# EAGLE library part LPC2458FET180 (library nxp-arm)
MICROCONTROLLER Single-chip 16-bit/32-bit micro; 512 kB flash, Ethernet, CAN, ISP/IAP, USB 2.0 device/host/OTG, external memory interface
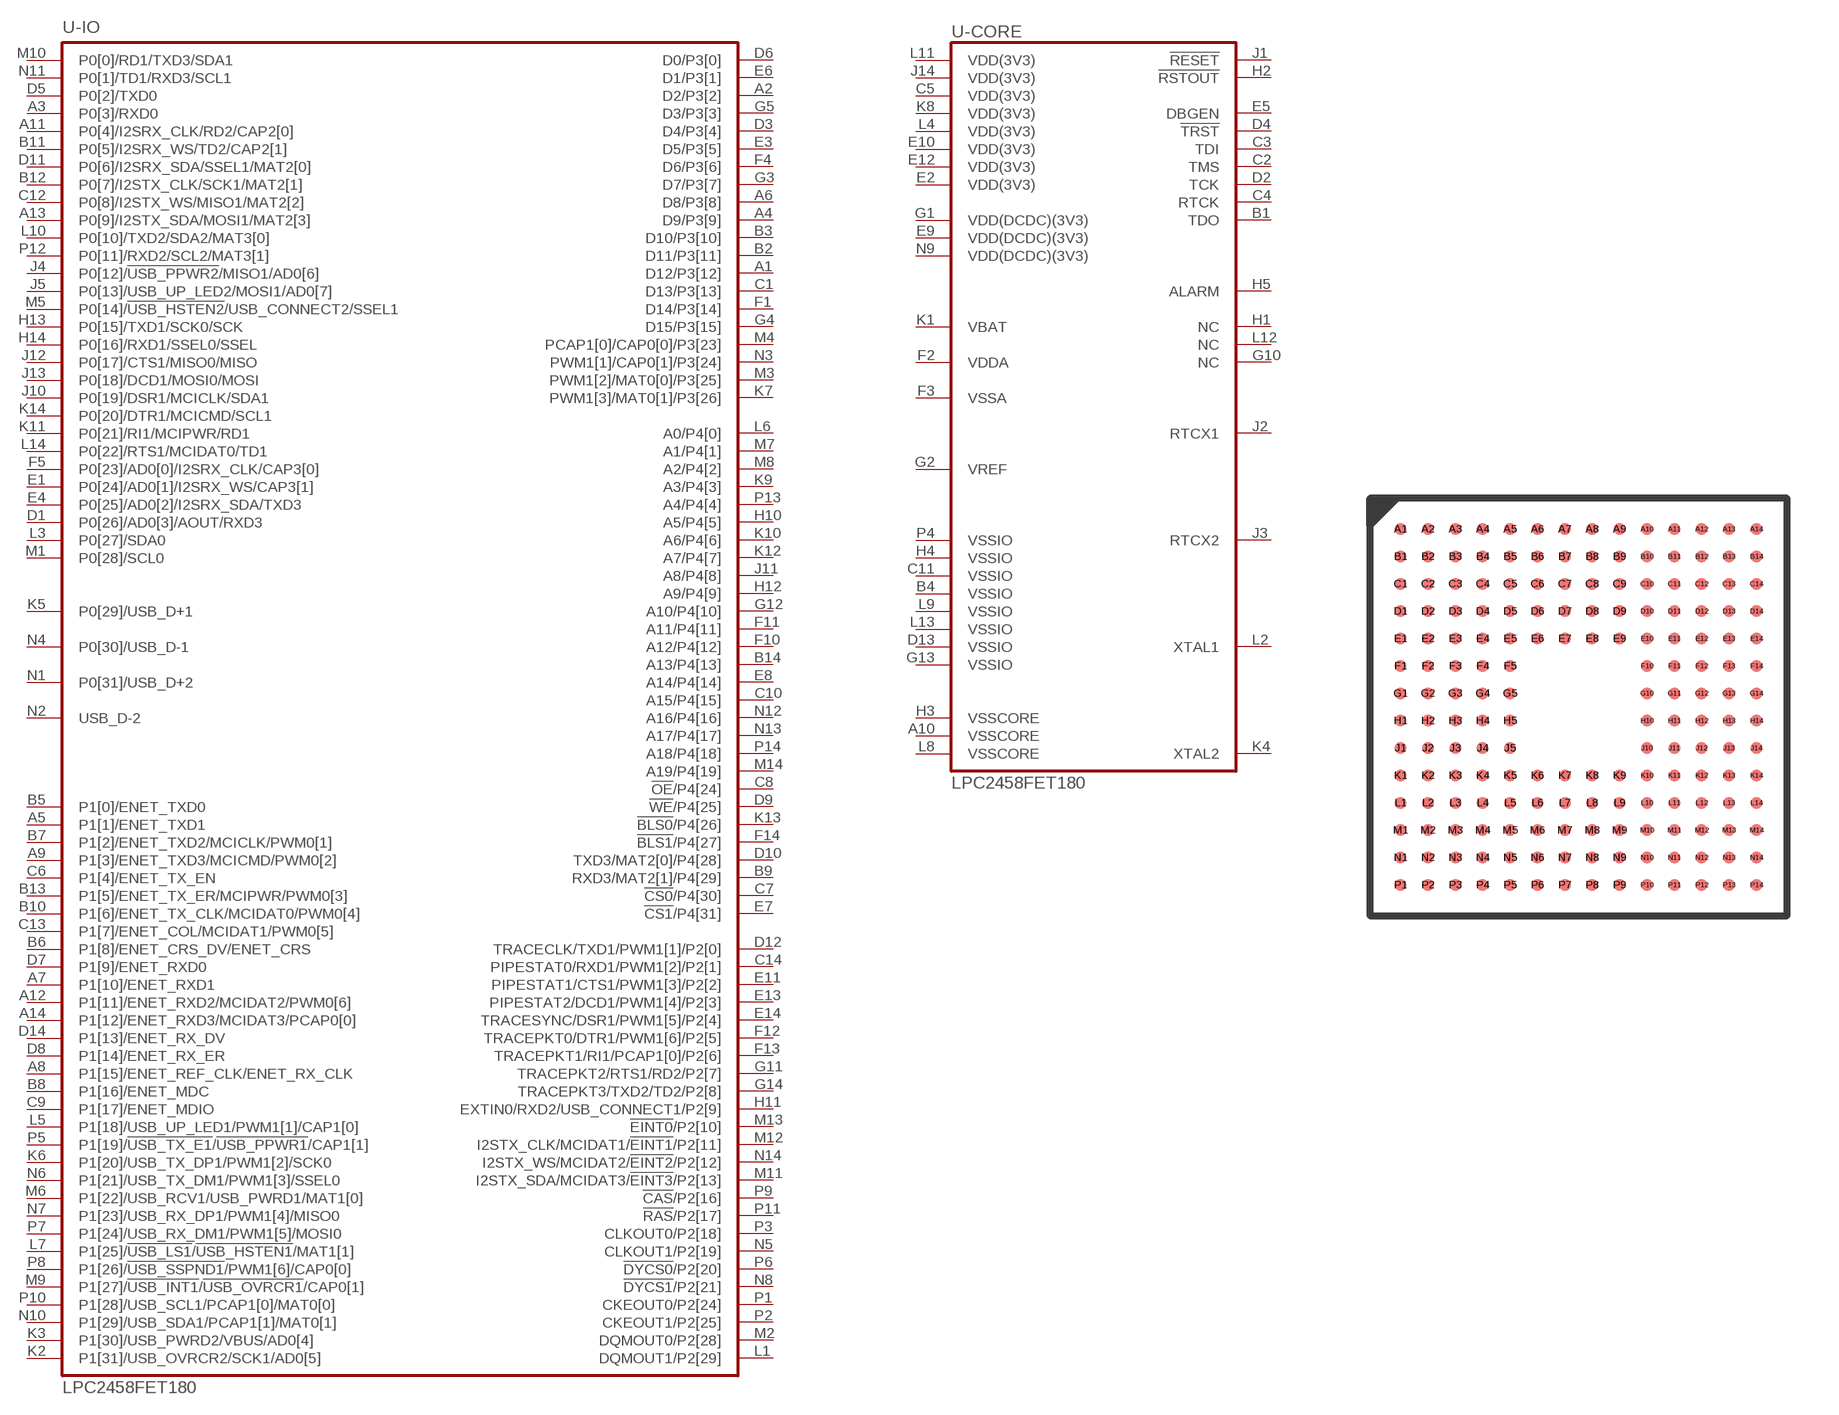
[diagram p0: symbol with the pads of TFBGA180; footprint TFBGA180]

Designator prefix U; gates -IO=LPC2458FET180-IO -CORE=LPC2458FET180-CORE

## LPC2458FET180  [TFBGA180]
A1  -IO:D12/P3[12]
A2  -IO:D2/P3[2]
A3  -IO:P0[3]/RXD0
A4  -IO:D9/P3[9]
A5  -IO:P1[1]/ENET_TXD1
A6  -IO:D8/P3[8]
A7  -IO:P1[10]/ENET_RXD1
A8  -IO:P1[15]/ENET_REF_CLK/ENET_RX_CLK
A9  -IO:P1[3]/ENET_TXD3/MCICMD/PWM0[2]
A10  -CORE:VSSCORE  pwr
A11  -IO:P0[4]/I2SRX_CLK/RD2/CAP2[0]
A12  -IO:P1[11]/ENET_RXD2/MCIDAT2/PWM0[6]
A13  -IO:P0[9]/I2STX_SDA/MOSI1/MAT2[3]
A14  -IO:P1[12]/ENET_RXD3/MCIDAT3/PCAP0[0]
B1  -CORE:TDO  out
B2  -IO:D11/P3[11]
B3  -IO:D10/P3[10]
B4  -CORE:VSSIO  pwr
B5  -IO:P1[0]/ENET_TXD0
B6  -IO:P1[8]/ENET_CRS_DV/ENET_CRS
B7  -IO:P1[2]/ENET_TXD2/MCICLK/PWM0[1]
B8  -IO:P1[16]/ENET_MDC
B9  -IO:RXD3/MAT2[1]/P4[29]
B10  -IO:P1[6]/ENET_TX_CLK/MCIDAT0/PWM0[4]
B11  -IO:P0[5]/I2SRX_WS/TD2/CAP2[1]
B12  -IO:P0[7]/I2STX_CLK/SCK1/MAT2[1]
B13  -IO:P1[5]/ENET_TX_ER/MCIPWR/PWM0[3]
B14  -IO:A13/P4[13]
C1  -IO:D13/P3[13]
C2  -CORE:TMS  in
C3  -CORE:TDI  in
C4  -CORE:RTCK
C5  -CORE:VDD(3V3)  pwr
C6  -IO:P1[4]/ENET_TX_EN
C7  -IO:!CS0!/P4[30]
C8  -IO:!OE!/P4[24]
C9  -IO:P1[17]/ENET_MDIO
C10  -IO:A15/P4[15]
C11  -CORE:VSSIO  pwr
C12  -IO:P0[8]/I2STX_WS/MISO1/MAT2[2]
C13  -IO:P1[7]/ENET_COL/MCIDAT1/PWM0[5]
C14  -IO:PIPESTAT0/RXD1/PWM1[2]/P2[1]
D1  -IO:P0[26]/AD0[3]/AOUT/RXD3
D2  -CORE:TCK  in
D3  -IO:D4/P3[4]
D4  -CORE:!TRST!  in
D5  -IO:P0[2]/TXD0
D6  -IO:D0/P3[0]
D7  -IO:P1[9]/ENET_RXD0
D8  -IO:P1[14]/ENET_RX_ER
D9  -IO:!WE!/P4[25]
D10  -IO:TXD3/MAT2[0]/P4[28]
D11  -IO:P0[6]/I2SRX_SDA/SSEL1/MAT2[0]
D12  -IO:TRACECLK/TXD1/PWM1[1]/P2[0]
D13  -CORE:VSSIO  pwr
D14  -IO:P1[13]/ENET_RX_DV
E1  -IO:P0[24]/AD0[1]/I2SRX_WS/CAP3[1]
E2  -CORE:VDD(3V3)  pwr
E3  -IO:D5/P3[5]
E4  -IO:P0[25]/AD0[2]/I2SRX_SDA/TXD3
E5  -CORE:DBGEN  in
E6  -IO:D1/P3[1]
E7  -IO:!CS1!/P4[31]
E8  -IO:A14/P4[14]
E9  -CORE:VDD(DCDC)(3V3)  pwr
E10  -CORE:VDD(3V3)  pwr
E11  -IO:PIPESTAT1/CTS1/PWM1[3]/P2[2]
E12  -CORE:VDD(3V3)  pwr
E13  -IO:PIPESTAT2/DCD1/PWM1[4]/P2[3]
E14  -IO:TRACESYNC/DSR1/PWM1[5]/P2[4]
F1  -IO:D14/P3[14]
F2  -CORE:VDDA  pwr
F3  -CORE:VSSA  pwr
F4  -IO:D6/P3[6]
F5  -IO:P0[23]/AD0[0]/I2SRX_CLK/CAP3[0]
F10  -IO:A12/P4[12]
F11  -IO:A11/P4[11]
F12  -IO:TRACEPKT0/DTR1/PWM1[6]/P2[5]
F13  -IO:TRACEPKT1/RI1/PCAP1[0]/P2[6]
F14  -IO:!BLS1!/P4[27]
G1  -CORE:VDD(DCDC)(3V3)  pwr
G2  -CORE:VREF  pwr
G3  -IO:D7/P3[7]
G4  -IO:D15/P3[15]
G5  -IO:D3/P3[3]
G10  -CORE:NC  nc
G11  -IO:TRACEPKT2/RTS1/RD2/P2[7]
G12  -IO:A10/P4[10]
G13  -CORE:VSSIO  pwr
G14  -IO:TRACEPKT3/TXD2/TD2/P2[8]
H1  -CORE:NC  nc
H2  -CORE:!RSTOUT!  out
H3  -CORE:VSSCORE  pwr
H4  -CORE:VSSIO  pwr
H5  -CORE:ALARM
H10  -IO:A5/P4[5]
H11  -IO:EXTIN0/RXD2/USB_CONNECT1/P2[9]
H12  -IO:A9/P4[9]
H13  -IO:P0[15]/TXD1/SCK0/SCK
H14  -IO:P0[16]/RXD1/SSEL0/SSEL
J1  -CORE:!RESET!  in
J2  -CORE:RTCX1  in
J3  -CORE:RTCX2  out
J4  -IO:P0[12]/!USB_PPWR2!/MISO1/AD0[6]
J5  -IO:P0[13]/USB_UP_LED2/MOSI1/AD0[7]
J10  -IO:P0[19]/DSR1/MCICLK/SDA1
J11  -IO:A8/P4[8]
J12  -IO:P0[17]/CTS1/MISO0/MISO
J13  -IO:P0[18]/DCD1/MOSI0/MOSI
J14  -CORE:VDD(3V3)  pwr
K1  -CORE:VBAT  pwr
K2  -IO:P1[31]/USB_OVRCR2/SCK1/AD0[5]
K3  -IO:P1[30]/USB_PWRD2/VBUS/AD0[4]
K4  -CORE:XTAL2  out
K5  -IO:P0[29]/USB_D+1
K6  -IO:P1[20]/USB_TX_DP1/PWM1[2]/SCK0
K7  -IO:PWM1[3]/MAT0[1]/P3[26]
K8  -CORE:VDD(3V3)  pwr
K9  -IO:A3/P4[3]
K10  -IO:A6/P4[6]
K11  -IO:P0[21]/RI1/MCIPWR/RD1
K12  -IO:A7/P4[7]
K13  -IO:!BLS0!/P4[26]
K14  -IO:P0[20]/DTR1/MCICMD/SCL1
L1  -IO:DQMOUT1/P2[29]
L2  -CORE:XTAL1  in
L3  -IO:P0[27]/SDA0
L4  -CORE:VDD(3V3)  pwr
L5  -IO:P1[18]/USB_UP_LED1/PWM1[1]/CAP1[0]
L6  -IO:A0/P4[0]
L7  -IO:P1[25]/!USB_LS1!/!USB_HSTEN1!/MAT1[1]
L8  -CORE:VSSCORE  pwr
L9  -CORE:VSSIO  pwr
L10  -IO:P0[10]/TXD2/SDA2/MAT3[0]
L11  -CORE:VDD(3V3)  pwr
L12  -CORE:NC  nc
L13  -CORE:VSSIO  pwr
L14  -IO:P0[22]/RTS1/MCIDAT0/TD1
M1  -IO:P0[28]/SCL0
M2  -IO:DQMOUT0/P2[28]
M3  -IO:PWM1[2]/MAT0[0]/P3[25]
M4  -IO:PCAP1[0]/CAP0[0]/P3[23]
M5  -IO:P0[14]/!USB_HSTEN2!/USB_CONNECT2/SSEL1
M6  -IO:P1[22]/USB_RCV1/USB_PWRD1/MAT1[0]
M7  -IO:A1/P4[1]
M8  -IO:A2/P4[2]
M9  -IO:P1[27]/!USB_INT1!/!USB_OVRCR1!/CAP0[1]
M10  -IO:P0[0]/RD1/TXD3/SDA1
M11  -IO:I2STX_SDA/MCIDAT3/!EINT3!/P2[13]
M12  -IO:I2STX_CLK/MCIDAT1/!EINT1!/P2[11]
M13  -IO:!EINT0!/P2[10]
M14  -IO:A19/P4[19]
N1  -IO:P0[31]/USB_D+2
N2  -IO:USB_D-2
N3  -IO:PWM1[1]/CAP0[1]/P3[24]
N4  -IO:P0[30]/USB_D-1
N5  -IO:CLKOUT1/P2[19]
N6  -IO:P1[21]/USB_TX_DM1/PWM1[3]/SSEL0
N7  -IO:P1[23]/USB_RX_DP1/PWM1[4]/MISO0
N8  -IO:!DYCS1!/P2[21]
N9  -CORE:VDD(DCDC)(3V3)  pwr
N10  -IO:P1[29]/USB_SDA1/PCAP1[1]/MAT0[1]
N11  -IO:P0[1]/TD1/RXD3/SCL1
N12  -IO:A16/P4[16]
N13  -IO:A17/P4[17]
N14  -IO:I2STX_WS/MCIDAT2/!EINT2!/P2[12]
P1  -IO:CKEOUT0/P2[24]
P2  -IO:CKEOUT1/P2[25]
P3  -IO:CLKOUT0/P2[18]
P4  -CORE:VSSIO  pwr
P5  -IO:P1[19]/!USB_TX_E1!/!USB_PPWR1!/CAP1[1]
P6  -IO:!DYCS0!/P2[20]
P7  -IO:P1[24]/USB_RX_DM1/PWM1[5]/MOSI0
P8  -IO:P1[26]/!USB_SSPND1!/PWM1[6]/CAP0[0]
P9  -IO:!CAS!/P2[16]
P10  -IO:P1[28]/USB_SCL1/PCAP1[0]/MAT0[0]
P11  -IO:!RAS!/P2[17]
P12  -IO:P0[11]/RXD2/SCL2/MAT3[1]
P13  -IO:A4/P4[4]
P14  -IO:A18/P4[18]

## Footprint TFBGA180 (pad centres in mm)
TFBGA180 body 12 x 12 x 0.8 mm, pitch 0.8 mm outline SOT570-2
smd 0.35 x 0.35: A1 -5.2,5.2; A2 -4.4,5.2; A3 -3.6,5.2; A4 -2.8,5.2; A5 -2,5.2; A6 -1.2,5.2; A7 -0.4,5.2; A8 0.4,5.2; A9 1.2,5.2; A10 2,5.2; A11 2.8,5.2; A12 3.6,5.2; A13 4.4,5.2; A14 5.2,5.2; B1 -5.2,4.4; B2 -4.4,4.4; B3 -3.6,4.4; B4 -2.8,4.4; B5 -2,4.4; B6 -1.2,4.4; B7 -0.4,4.4; B8 0.4,4.4; B9 1.2,4.4; B10 2,4.4; B11 2.8,4.4; B12 3.6,4.4; B13 4.4,4.4; B14 5.2,4.4; C1 -5.2,3.6; C2 -4.4,3.6; C3 -3.6,3.6; C4 -2.8,3.6; C5 -2,3.6; C6 -1.2,3.6; C7 -0.4,3.6; C8 0.4,3.6; C9 1.2,3.6; C10 2,3.6; C11 2.8,3.6; C12 3.6,3.6; C13 4.4,3.6; C14 5.2,3.6; D1 -5.2,2.8; D2 -4.4,2.8; D3 -3.6,2.8; D4 -2.8,2.8; D5 -2,2.8; D6 -1.2,2.8; D7 -0.4,2.8; D8 0.4,2.8; D9 1.2,2.8; D10 2,2.8; D11 2.8,2.8; D12 3.6,2.8; D13 4.4,2.8; D14 5.2,2.8; E1 -5.2,2; E2 -4.4,2; E3 -3.6,2; E4 -2.8,2; E5 -2,2; E6 -1.2,2; E7 -0.4,2; E8 0.4,2; E9 1.2,2; E10 2,2; E11 2.8,2; E12 3.6,2; E13 4.4,2; E14 5.2,2; F1 -5.2,1.2; F2 -4.4,1.2; F3 -3.6,1.2; F4 -2.8,1.2; F5 -2,1.2; F10 2,1.2; F11 2.8,1.2; F12 3.6,1.2; F13 4.4,1.2; F14 5.2,1.2; G1 -5.2,0.4; G2 -4.4,0.4; G3 -3.6,0.4; G4 -2.8,0.4; G5 -2,0.4; G10 2,0.4; G11 2.8,0.4; G12 3.6,0.4; G13 4.4,0.4; G14 5.2,0.4; H1 -5.2,-0.4; H2 -4.4,-0.4; H3 -3.6,-0.4; H4 -2.8,-0.4; H5 -2,-0.4; H10 2,-0.4; H11 2.8,-0.4; H12 3.6,-0.4; H13 4.4,-0.4; H14 5.2,-0.4; J1 -5.2,-1.2; J2 -4.4,-1.2; J3 -3.6,-1.2; J4 -2.8,-1.2; J5 -2,-1.2; J10 2,-1.2; J11 2.8,-1.2; J12 3.6,-1.2; J13 4.4,-1.2; J14 5.2,-1.2; K1 -5.2,-2; K2 -4.4,-2; K3 -3.6,-2; K4 -2.8,-2; K5 -2,-2; K6 -1.2,-2; K7 -0.4,-2; K8 0.4,-2; K9 1.2,-2; K10 2,-2; K11 2.8,-2; K12 3.6,-2; K13 4.4,-2; K14 5.2,-2; L1 -5.2,-2.8; L2 -4.4,-2.8; L3 -3.6,-2.8; L4 -2.8,-2.8; L5 -2,-2.8; L6 -1.2,-2.8; L7 -0.4,-2.8; L8 0.4,-2.8; L9 1.2,-2.8; L10 2,-2.8; L11 2.8,-2.8; L12 3.6,-2.8; L13 4.4,-2.8; L14 5.2,-2.8; M1 -5.2,-3.6; M2 -4.4,-3.6; M3 -3.6,-3.6; M4 -2.8,-3.6; M5 -2,-3.6; M6 -1.2,-3.6; M7 -0.4,-3.6; M8 0.4,-3.6; M9 1.2,-3.6; M10 2,-3.6; M11 2.8,-3.6; M12 3.6,-3.6; M13 4.4,-3.6; M14 5.2,-3.6; N1 -5.2,-4.4; N2 -4.4,-4.4; N3 -3.6,-4.4; N4 -2.8,-4.4; N5 -2,-4.4; N6 -1.2,-4.4; N7 -0.4,-4.4; N8 0.4,-4.4; N9 1.2,-4.4; N10 2,-4.4; N11 2.8,-4.4; N12 3.6,-4.4; N13 4.4,-4.4; N14 5.2,-4.4; P1 -5.2,-5.2; P2 -4.4,-5.2; P3 -3.6,-5.2; P4 -2.8,-5.2; P5 -2,-5.2; P6 -1.2,-5.2; P7 -0.4,-5.2; P8 0.4,-5.2; P9 1.2,-5.2; P10 2,-5.2; P11 2.8,-5.2; P12 3.6,-5.2; P13 4.4,-5.2; P14 5.2,-5.2